# Altium schematic symbol library 2022-03-25_10-13-59.SchLib: 1 symbol
Pins are listed as number, name and electrical type; pins without a type are passive.

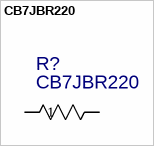
[diagram p0: symbol CB7JBR220]

## CB7JBR220
designator R?
Mfr_Name: Stackpole International; C: Copyright (C) 2018 Accelerated Designs. All rights reserved; Copyright: Copyright (C) 2022 Ultra Librarian. All rights reserved.; Manufacturer_Part_Number: CB7JBR220; Value: CB7JBR220
footprint RES_CB7_STP
pins: 1, 2
1 alternate drawing of the same symbol